# EAGLE library part TERM_7P (library LX_Eagle_Lib)
Standard 0.1" Pitch Terminal 7 Position
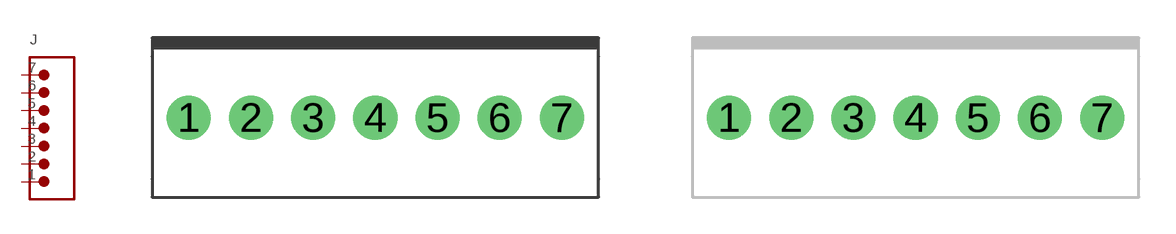
[diagram p3: symbol with the pads of 1X7-2.54; footprints 1X7-2.54, 1X7-2.54_NOSILK]

Designator prefix J

## TERM_7P_2.54  [1X7-2.54]
1  1  pas
2  2  pas
3  3  pas
4  4  pas
5  5  pas
6  6  pas
7  7  pas

## TERM_7P_2.54_NOSILK  [1X7-2.54_NOSILK]
Pads as for 1X7-2.54

## Footprint 1X7-2.54 (pad centres in mm)
7 Pin Terminal 0.1" (2.54mm) pitch
drill 1.1 pad 1.8: 1 -7.62,0; 2 -5.08,0; 3 -2.54,0; 4 0,0; 5 2.54,0; 6 5.08,0; 7 7.62,0

## Footprint 1X7-2.54_NOSILK (pad centres in mm)
7 Pin Terminal 0.1" (2.54mm) pitch (No Silkscreen)
drill 1.1 pad 1.8: 1 -7.62,0; 2 -5.08,0; 3 -2.54,0; 4 0,0; 5 2.54,0; 6 5.08,0; 7 7.62,0